# Altium schematic symbol library CLP_v1.2_SchLib.SchLib: 3 symbols
Pins are listed as number, name and electrical type; pins without a type are passive.

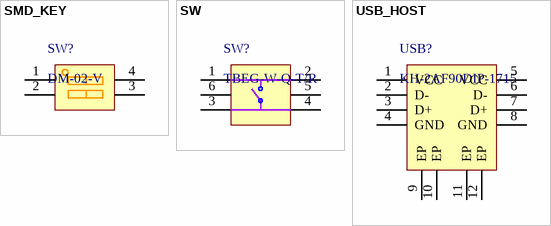
[diagram p0: symbols SMD_KEY to USB_HOST]

## SMD_KEY
designator SW?, comment DM-02-V
boot
footprint SMD_KEY (boot && led_key)
pins: 1, 2, 3, 4

## SW
designator SW?, comment TBEG-W-Q-T/R
key
footprint SW (key)
pins: 1, 2, 3, 4, 5, 6

## USB_HOST
designator USB?, comment KH-2AF90DIP-1715
WIFI && USB_HUB
footprint USB_HOST (KH-2AF90DIP-1715)
pins: 1 VCC, 2 D-, 3 D+, 4 GND, 5 VCC, 6 D-, 7 D+, 8 GND, 9 EP, 10 EP, 11 EP, 12 EP